# Altium footprint library PCB - LED - LED 1206 GREEN.PCBLIB: 1 footprints
Each footprint in its own frame and in the unit in brackets; x right, y up, seen from the top. Pads: shape width x height; smd on the part's side, far side on the other; paste and mask are expansions set on the pad; w line width, h text height; cw(c..) or ccw(c..) is an arc to the next point about the centre after c.
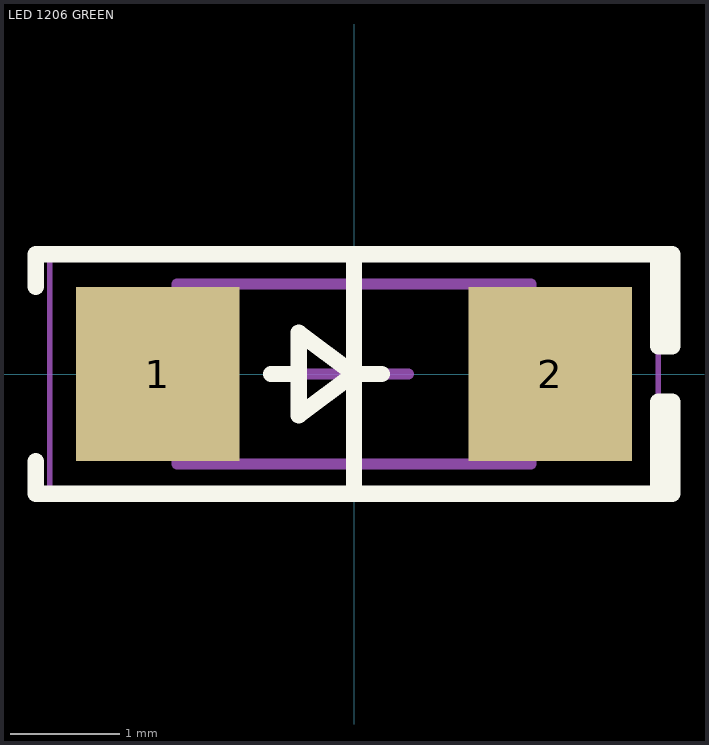
[diagram p0: the footprint, top view; thin cyan lines are the x and y axes]

## LED 1206 GREEN [mm] "Chip Diode, 2-Leads, Body 3.13x1.55mm, IPC Medium Density"
height 0.7
pads (2):
  rect 1.5x1.6 smd: 1(-1.8,0) 2(1.8,0)
Top Overlay:
  lines w0.15: -2.921,-0.8 -2.921,-1.1 2.794,-1.1 ; -2.921,0.8 -2.921,1.1 2.794,1.1 ; -0.762,0 -0.508,0 ; 0,-1.1 0,1.1 ; 0.254,0 0,0 ; 0,0 -0.508,0.381 -0.508,-0.381 0,0 ; 2.794,-1.1 2.794,-0.254 2.921,-0.254 2.921,-1.1 2.794,-1.1 ; 2.794,1.1 2.794,0.254 2.921,0.254 2.921,1.1 2.794,1.1
Mechanical 13:
  lines w0.1: -1.625,-0.825 -1.625,0.825 1.625,0.825 1.625,-0.825 -1.625,-0.825
Mechanical 15:
  lines w0.05: -2.794,-1.1 -2.794,1.1 2.794,1.1 2.794,-1.1 -2.794,-1.1
  lines w0.1: -0.5,0 0.5,0 ; 0,-0.5 0,0.5
3D body "LED 1206 Base GREEN.STEP": height 0.4, standoff 0, extent -1.6,-0.8 1.6,0.8
3D body "LED 1206 Lens GREEN.STEP": height 0.9, standoff 0.3, extent -0.75,-0.8 0.75,0.8